# Altium footprint library IC_And_Boards.PcbLib: 9 footprints
Each footprint in its own frame and in the unit in brackets; x right, y up, seen from the top. Pads: shape width x height; smd on the part's side, far side on the other; paste and mask are expansions set on the pad; w line width, h text height; cw(c..) or ccw(c..) is an arc to the next point about the centre after c.
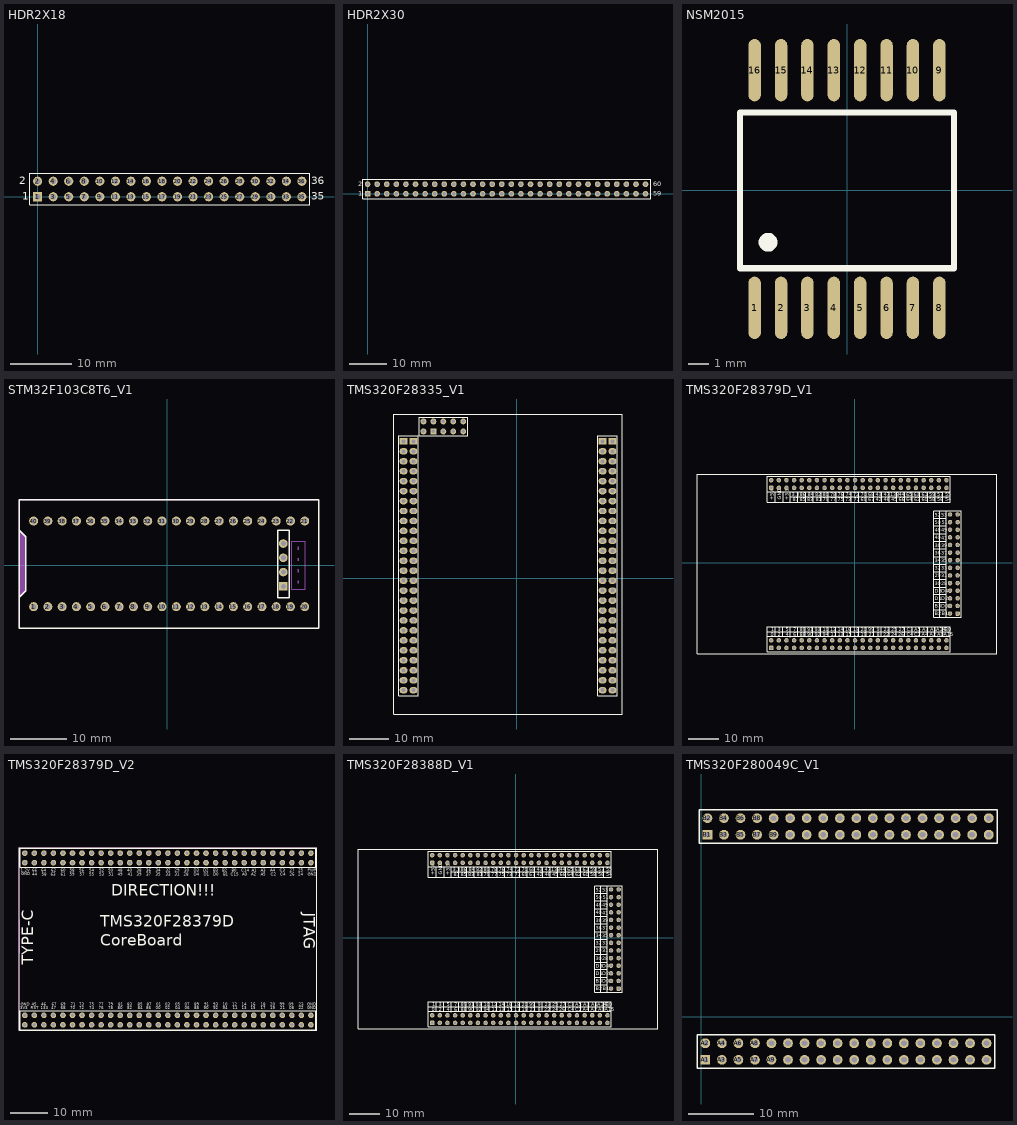
[diagram p0: the footprints below, top view; thin cyan lines are the x and y axes]

## HDR2X18 [mm] "Connector; Header; 18x2 Position"
pads (36):
  rect 1.5x1.5 hole 0.9: 1(0,0)
  round 1.5 hole 0.9: 2(0,2.54) 3(2.54,0) 4(2.54,2.54) 5(5.08,0) 6(5.08,2.54) 7(7.62,0) 8(7.62,2.54) 9(10.16,0) 10(10.16,2.54) 11(12.7,0) 12(12.7,2.54) 13(15.24,0) 14(15.24,2.54) 15(17.78,0) 16(17.78,2.54) 17(20.32,0) 18(20.32,2.54) 19(22.86,0) 20(22.86,2.54) 21(25.4,0) 22(25.4,2.54) 23(27.94,0) 24(27.94,2.54) 25(30.48,0) 26(30.48,2.54) 27(33.02,0) 28(33.02,2.54) 29(35.56,0) 30(35.56,2.54) 31(38.1,0) 32(38.1,2.54) 33(40.64,0) 34(40.64,2.54) 35(43.18,0) 36(43.18,2.54)
Top Overlay:
  lines w0.2: -1.27,-1.27 44.45,-1.27 44.45,3.81 -1.27,3.81 -1.27,-1.27
  text "36" at 44.704,2.032 h1.27
  text "35" at 44.704,-0.508 h1.27
  text "1" at -2.54,-0.508 h1.27
  text "2" at -3.048,2.032 h1.27

## HDR2X30 [mm] "Connector; Header; 30x2 Position"
pads (60):
  rect 1.5x1.5 hole 0.9: 1(0,0)
  round 1.5 hole 0.9: 2(0,2.54) 3(2.54,0) 4(2.54,2.54) 5(5.08,0) 6(5.08,2.54) 7(7.62,0) 8(7.62,2.54) 9(10.16,0) 10(10.16,2.54) 11(12.7,0) 12(12.7,2.54) 13(15.24,0) 14(15.24,2.54) 15(17.78,0) 16(17.78,2.54) 17(20.32,0) 18(20.32,2.54) 19(22.86,0) 20(22.86,2.54) 21(25.4,0) 22(25.4,2.54) 23(27.94,0) 24(27.94,2.54) 25(30.48,0) 26(30.48,2.54) 27(33.02,0) 28(33.02,2.54) 29(35.56,0) 30(35.56,2.54) 31(38.1,0) 32(38.1,2.54) 33(40.64,0) 34(40.64,2.54) 35(43.18,0) 36(43.18,2.54) 37(45.72,0) 38(45.72,2.54) 39(48.26,0) 40(48.26,2.54) 41(50.8,0) 42(50.8,2.54) 43(53.34,0) 44(53.34,2.54) 45(55.88,0) 46(55.88,2.54) 47(58.42,0) 48(58.42,2.54) 49(60.96,0) 50(60.96,2.54) 51(63.5,0) 52(63.5,2.54) 53(66.04,0) 54(66.04,2.54) 55(68.58,0) 56(68.58,2.54) 57(71.12,0) 58(71.12,2.54) 59(73.66,0) 60(73.66,2.54)
Top Overlay:
  lines w0.2: -1.27,-1.27 -1.27,3.81 75.06,3.81 75.06,-1.27 -1.27,-1.27
  text "2" at -2.54,2.032 h1.27
  text "1" at -2.54,-0.508 h1.27
  text "59" at 75.692,-0.508 h1.27
  text "60" at 75.692,2.032 h1.27
Bottom Overlay:
  text "1" at -55.88,-0.508 h1.27

## NSM2015 [mm]
pads (16):
  oval 0.6x3 smd: 1(-4.445,-5.658) 2(-3.175,-5.658) 3(-1.905,-5.658) 4(-0.635,-5.658) 5(0.635,-5.658) 6(1.905,-5.658) 7(3.175,-5.658) 8(4.445,-5.658) 9(4.445,5.785) 10(3.175,5.785) 11(1.905,5.785) 12(0.635,5.785) 13(-0.635,5.785) 14(-1.905,5.785) 15(-3.175,5.785) 16(-4.445,5.785)
Top Overlay:
  circle w0.5: c-3.8,-2.5 r0.2
  lines w0.3: -5.15,-3.75 5.15,-3.75 5.15,3.75 -5.15,3.75 -5.15,-3.75

## STM32F103C8T6_V1 [mm]
pads (44):
  round 1.6 hole 1: 1(-23.749,-7.366) 2(-21.209,-7.366) 3(-18.669,-7.366) 4(-16.129,-7.366) 5(-13.589,-7.366) 6(-11.049,-7.366) 7(-8.509,-7.366) 8(-5.969,-7.366) 9(-3.429,-7.366) 10(-0.889,-7.366) 11(1.651,-7.366) 12(4.191,-7.366) 13(6.731,-7.366) 14(9.271,-7.366) 15(11.811,-7.366) 16(14.351,-7.366) 17(16.891,-7.366) 18(19.431,-7.366) 19(21.971,-7.366) 20(24.511,-7.366) 21(24.511,7.874) 22(21.971,7.874) 23(19.431,7.874) 24(16.891,7.874) 25(14.351,7.874) 26(11.811,7.874) 27(9.271,7.874) 28(6.731,7.874) 29(4.191,7.874) 30(1.651,7.874) 31(-0.889,7.874) 32(-3.429,7.874) 33(-5.969,7.874) 34(-8.509,7.874) 35(-11.049,7.874) 36(-13.589,7.874) 37(-16.129,7.874) 38(-18.669,7.874) 39(-21.209,7.874) 40(-23.749,7.874)
  round 1.524 hole 0.914: 41(20.701,3.871) 42(20.701,1.331) 43(20.701,-1.209)
  rect 1.524x1.524 hole 0.914: 44(20.701,-3.749)
Top Overlay:
  lines w0.254: -26.289,-5.691 -25.119,-4.521 -25.119,4.254 -25.119,5.052 -26.289,6.222 ; 27.051,-11.176 27.051,11.684 ; 27.051,-11.176 -26.289,-11.176 -26.289,11.684 27.051,11.684 ; 27.051,-11.176 27.051,11.684 ; 19.714,-5.746 19.714,6.254 21.714,6.254 21.714,-5.746 19.714,-5.746
Mechanical 6:
  region: -26.289,6.222 -25.119,5.052 -25.119,-4.521 -26.289,-5.691
Mechanical 15:
  drawing of 54 lines, arcs and shapes, not listed

## TMS320F28335_V1 [mil]
pads (114):
  rect 80x65 hole 40: 1(-1040,1375) 2(-1140,1375) 103(960,1375) 104(860,1375)
  oval 80x65 hole 40: 3(-1040,1275) 4(-1140,1275) 5(-1040,1175) 6(-1140,1175) 7(-1040,1075) 8(-1140,1075) 9(-1040,975) 10(-1140,975) 11(-1040,875) 12(-1140,875) 13(-1040,775) 14(-1140,775) 15(-1040,675) 16(-1140,675) 17(-1040,575) 18(-1140,575) 19(-1040,475) 20(-1140,475) 21(-1040,375) 22(-1140,375) 23(-1040,275) 24(-1140,275) 25(-1040,175) 26(-1140,175) 27(-1040,75) 28(-1140,75) 29(-1040,-25) 30(-1140,-25) 31(-1040,-125) 32(-1140,-125) 33(-1040,-225) 34(-1140,-225) 35(-1040,-325) 36(-1140,-325) 37(-1040,-425) 38(-1140,-425) 39(-1040,-525) 40(-1140,-525) 41(-1040,-625) 42(-1140,-625) 43(-1040,-725) 44(-1140,-725) 45(-1040,-825) 46(-1140,-825) 47(-1040,-926) 48(-1140,-926) 49(-1040,-1026) 50(-1140,-1026) 51(-1040,-1126) 52(-1140,-1126) 53(960,-1126) 54(860,-1126) 55(960,-1026) 56(860,-1026) 57(960,-926) 58(860,-926) 59(960,-825) 60(860,-825) 61(960,-725) 62(860,-725) 63(960,-625) 64(860,-625) 65(960,-525) 66(860,-525) 67(960,-425) 68(860,-425) 69(960,-325) 70(860,-325) 71(960,-225) 72(860,-225) 73(960,-125) 74(860,-125) 75(960,-25) 76(860,-25) 77(960,75) 78(860,75) 79(960,175) 80(860,175) 81(960,275) 82(860,275) 83(960,375) 84(860,375) 85(960,475) 86(860,475) 87(960,575) 88(860,575) 89(960,675) 90(860,675) 91(960,775) 92(860,775) 93(960,875) 94(860,875) 95(960,975) 96(860,975) 97(960,1075) 98(860,1075) 99(960,1175) 100(860,1175) 101(960,1275) 102(860,1275)
  round 59.06 hole 35.43: 105(-540,1475) 106(-540,1575) 107(-640,1475) 108(-640,1575) 109(-740,1475) 110(-740,1575) 112(-840,1575) 113(-940,1475) 114(-940,1575)
  rect 59.06x59.06 hole 35.43: 111(-840,1475)
Top Overlay:
  lines w6: -1188,-1179.33 -991,-1179.33 -991,-982 -991,1430 -1188,1430 -1188,-983 -1188,-1179.33 ; 812,-1179.33 1009,-1179.33 1009,-982 1009,1430 812,1430 812,-983 812,-1179.33
  lines w9: -982,1432 -982,1618 ; -981,1618 -494,1618 -494,1432 -980,1432 ; -886,1432 -498,1432 ; -886,1618 -498,1618
  lines w10: -1240,-1365 1060,-1365 1060,1650 -1240,1650 -1240,-1365

## TMS320F28379D_V1 [mm]
pads (124):
  rrect50% 1.5x1.5 hole 0.9: 1(-27.838,25.044) 49(34.296,-16.872) 77(-27.838,-28.321)
  round 1.5 hole 0.9: 2(-27.838,27.584) 3(-25.298,25.044) 4(-25.298,27.584) 5(-22.758,25.044) 6(-22.758,27.584) 7(-20.218,25.044) 8(-20.218,27.584) 9(-17.678,25.044) 10(-17.678,27.584) 11(-15.138,25.044) 12(-15.138,27.584) 13(-12.598,25.044) 14(-12.598,27.584) 15(-10.058,25.044) 16(-10.058,27.584) 17(-7.518,25.044) 18(-7.518,27.584) 19(-4.978,25.044) 20(-4.978,27.584) 21(-2.438,25.044) 22(-2.438,27.584) 23(0.102,25.044) 24(0.102,27.584) 25(2.642,25.044) 26(2.642,27.584) 27(5.182,25.044) 28(5.182,27.584) 29(7.722,25.044) 30(7.722,27.584) 31(10.262,25.044) 32(10.262,27.584) 33(12.802,25.044) 34(12.802,27.584) 35(15.342,25.044) 36(15.342,27.584) 37(17.882,25.044) 38(17.882,27.584) 39(20.422,25.044) 40(20.422,27.584) 41(22.962,25.044) 42(22.962,27.584) 43(25.502,25.044) 44(25.502,27.584) 45(28.042,25.044) 46(28.042,27.584) 47(30.582,25.044) 48(30.582,27.584) 50(31.756,-16.872) 51(34.296,-14.332) 52(31.756,-14.332) 53(34.296,-11.792) 54(31.756,-11.792) 55(34.296,-9.252) 56(31.756,-9.252) 57(34.296,-6.712) 58(31.756,-6.712) 59(34.296,-4.172) 60(31.756,-4.172) 61(34.296,-1.632) 62(31.756,-1.632) 63(34.296,0.908) 64(31.756,0.908) 65(34.296,3.448) 66(31.756,3.448) 67(34.296,5.988) 68(31.756,5.988) 69(34.296,8.528) 70(31.756,8.528) 71(34.296,11.068) 72(31.756,11.068) 73(34.296,13.608) 74(31.756,13.608) 75(34.296,16.148) 76(31.756,16.148) 78(-27.838,-25.781) 79(-25.298,-28.321) 80(-25.298,-25.781) 81(-22.758,-28.321) 82(-22.758,-25.781) 83(-20.218,-28.321) 84(-20.218,-25.781) 85(-17.678,-28.321) 86(-17.678,-25.781) 87(-15.138,-28.321) 88(-15.138,-25.781) 89(-12.598,-28.321) 90(-12.598,-25.781) 91(-10.058,-28.321) 92(-10.058,-25.781) 93(-7.518,-28.321) 94(-7.518,-25.781) 95(-4.978,-28.321) 96(-4.978,-25.781) 97(-2.438,-28.321) 98(-2.438,-25.781) 99(0.102,-28.321) 100(0.102,-25.781) 101(2.642,-28.321) 102(2.642,-25.781) 103(5.182,-28.321) 104(5.182,-25.781) 105(7.722,-28.321) 106(7.722,-25.781) 107(10.262,-28.321) 108(10.262,-25.781) 109(12.802,-28.321) 110(12.802,-25.781) 111(15.342,-28.321) 112(15.342,-25.781) 113(17.882,-28.321) 114(17.882,-25.781) 115(20.422,-28.321) 116(20.422,-25.781) 117(22.962,-28.321) 118(22.962,-25.781) 119(25.502,-28.321) 120(25.502,-25.781) 121(28.042,-28.321) 122(28.042,-25.781) 123(30.582,-28.321) 124(30.582,-25.781)
Top Overlay:
  lines w0.2: -29.108,-29.591 31.852,-29.591 31.852,-24.511 -29.108,-24.511 -29.108,-29.591 ; -29.108,23.774 31.852,23.774 31.852,28.854 -29.108,28.854 -29.108,23.774 ; 30.486,-18.142 30.486,17.418 35.566,17.418 35.566,-18.142 30.486,-18.142
  lines w0.254: -29.083,-24.587 -29.083,-21.26 31.852,-21.26 31.852,-24.663 ; -29.083,-22.962 31.852,-22.962 ; -29.083,23.774 -29.083,20.295 31.847,20.295 31.847,23.774 ; -26.543,-24.562 -26.543,-21.26 ; -26.492,20.422 -26.492,23.724 ; -24.054,-21.26 -24.028,-21.26 -24.028,-24.663 ; -23.876,20.447 -23.876,23.749 ; -21.468,-24.74 -21.468,-21.26 ; -21.412,20.396 -21.412,23.698 ; -21.412,21.996 31.847,21.996 ; -18.948,-24.613 -18.948,-21.311 ; -18.948,20.371 -18.948,23.673 ; -16.485,-24.638 -16.485,-21.336 ; -16.383,20.396 -16.383,23.698 ; -13.919,-24.613 -13.919,-21.311 ; -13.818,20.472 -13.818,23.774 ; -11.354,-24.536 -11.354,-21.234 ; -11.227,20.498 -11.227,23.774 ; -8.763,-24.511 -8.763,-21.234 ; -8.763,20.472 -8.763,23.774 ; -6.299,-24.536 -6.299,-21.234 ; -6.198,20.447 -6.198,23.749 ; -3.739,20.442 -3.739,23.744 ; -3.734,-24.562 -3.734,-21.26 ; -1.275,-24.567 -1.275,-21.265 ; -1.148,20.467 -1.148,23.769 ; 1.316,-24.542 1.316,-21.24 ; 1.316,20.442 1.316,23.744 ; 3.779,-24.567 3.779,-21.265 ; 3.881,20.467 3.881,23.769 ; 6.345,-24.542 6.345,-21.24 ; 6.401,20.422 6.401,23.724 ; 8.865,-24.587 8.865,-21.285 ; 8.992,20.447 8.992,23.749 ; 11.455,-24.562 11.455,-21.26 ; 11.455,20.422 11.455,23.724 ; 13.919,-24.587 13.919,-21.285 ; 14.021,20.447 14.021,23.749 ; 16.612,-24.562 16.612,-21.26 ; 16.637,20.447 16.637,23.749 ; 19.126,-24.562 19.126,-21.26 ; 19.228,20.472 19.228,23.774 ; 21.692,20.447 21.692,23.749 ; 21.742,-24.562 21.742,-21.26 ; 24.257,20.472 24.257,23.774 ; 24.333,-24.562 24.333,-21.26 ; 26.289,-15.596 30.429,-15.596 ; 26.289,-13.056 30.429,-13.056 ; 26.289,-10.49 30.455,-10.49 ; 26.289,-8.032 30.46,-8.032 ; 26.289,-5.441 30.434,-5.441 ; 26.289,-2.977 30.46,-2.977 ; 26.289,-0.412 30.434,-0.412 ; 26.289,2.108 30.48,2.108 ; 26.289,4.699 30.455,4.699 ; 26.289,7.163 30.48,7.163 ; 26.289,9.728 30.455,9.728 ; 26.289,12.344 30.455,12.344 ; 26.289,14.935 30.429,14.935 ; 26.289,17.312 26.289,-18.11 30.48,-18.11 ; 26.289,17.399 30.455,17.399 ; 26.746,-24.562 26.746,-21.26 ; 26.772,20.295 26.772,23.774 ; 28.397,-18.11 28.397,17.399 ; 29.362,-24.562 29.362,-21.26 ; 29.413,20.295 29.413,23.774 ; -52.578,-30.353 47.422,-30.353 47.422,29.647 -52.578,29.647 -52.578,-30.353
  text "92" at -13.278,-24.492 h1.17
  text "93" at -13.276,-22.765 h1.17
  text "82" at -13.207,22.218 h1.17
  text "81" at -13.049,20.542 h1.17
  text "10" at -10.731,-22.765 h1.17
  text "79" at -10.734,20.548 h1.17
  text "94" at -10.725,-24.492 h1.17
  text "80" at -10.671,22.218 h1.17
  text "12" at -8.136,-22.765 h1.17
  text "11" at -7.969,-24.492 h1.17
  text "77" at -8.192,20.548 h1.17
  text "78" at -8.136,22.218 h1.17
  text "14" at -5.642,-22.765 h1.17
  text "13" at -5.62,-24.492 h1.17
  text "75" at -5.651,20.548 h1.17
  text "76" at -5.601,22.218 h1.17
  text "20" at 1.992,-22.765 h1.17
  text "70" at 2.005,22.218 h1.17
  text "21" at 4.591,-24.492 h1.17
  text "67" at 4.515,20.548 h1.17
  text "99" at 4.536,-22.765 h1.17
  text "68" at 4.54,22.218 h1.17
  text "8" at 7.259,-24.488 h1.17
  text "9" at 7.278,-22.76 h1.17
  text "42" at 7.057,20.548 h1.17
  text "43" at 7.075,22.218 h1.17
  text "22" at 9.558,-24.492 h1.17
  text "46" at 9.598,20.548 h1.17
  text "23" at 9.626,-22.765 h1.17
  text "47" at 9.611,22.218 h1.17
  text "133" at 11.798,22.218 h1.17
  text "24" at 12.097,-24.492 h1.17
  text "45" at 12.14,20.548 h1.17
  text "25" at 12.17,-22.765 h1.17
  text "26" at 14.561,-24.492 h1.17
  text "27" at 14.634,-22.765 h1.17
  text "66" at 14.681,20.548 h1.17
  text "44" at 14.681,22.218 h1.17
  text "65" at 17.216,22.218 h1.17
  text "64" at 17.223,20.548 h1.17
  text "C4" at 17.278,-24.492 h1.17
  text "C3" at 17.357,-22.765 h1.17
  text "63" at 19.752,22.218 h1.17
  text "62" at 19.764,20.548 h1.17
  text "C2" at 19.817,-24.492 h1.17
  text "A5" at 19.901,-22.765 h1.17
  text "61" at 22.287,22.218 h1.17
  text "60" at 22.306,20.548 h1.17
  text "A4" at 22.356,-24.492 h1.17
  text "A3" at 22.446,-22.765 h1.17
  text "59" at 24.822,22.218 h1.17
  text "58" at 24.847,20.548 h1.17
  text "A2" at 24.946,-24.492 h1.17
  text "A1" at 25.143,-22.765 h1.17
  text "D1" at 26.727,-12.436 h1.17
  text "B2" at 26.676,-17.436 h1.17
  text "29" at 26.727,-4.83 h1.17
  text "36" at 26.727,2.777 h1.17
  text "50" at 26.727,12.919 h1.17
  text "D3" at 26.727,-9.901 h1.17
  text "52" at 26.727,15.454 h1.17
  text "B3" at 26.727,-14.972 h1.17
  text "32" at 26.727,-2.294 h1.17
  text "30" at 26.727,-7.365 h1.17
  text "38" at 26.727,5.312 h1.17
  text "40" at 26.727,7.848 h1.17
  text "48" at 26.727,10.383 h1.17
  text "34" at 26.727,0.241 h1.17
  text "A0" at 27.435,-24.492 h1.17
  text "A14" at 27.213,-22.765 h1.17
  text "56" at 27.564,20.523 h1.17
  text "57" at 27.57,22.193 h1.17
  text "31" at 28.886,-4.841 h1.17
  text "41" at 28.886,7.8 h1.17
  text "B1" at 28.962,-17.418 h1.17
  text "39" at 28.886,5.271 h1.17
  text "37" at 28.886,2.743 h1.17
  text "28" at 28.886,-7.369 h1.17
  text "53" at 28.886,15.384 h1.17
  text "D2" at 28.886,-12.426 h1.17
  text "35" at 28.886,0.215 h1.17
  text "D0" at 28.886,-14.954 h1.17
  text "33" at 28.886,-2.313 h1.17
  text "49" at 28.886,10.328 h1.17
  text "51" at 29.038,12.957 h1.17
  text "D4" at 28.886,-9.897 h1.17
  text "A15" at 29.732,-24.492 h1.17
  text "B0" at 30.08,-22.765 h1.17
  text "55" at 30.105,22.193 h1.17
  text "54" at 30.131,20.523 h1.17
  text "5" at -23.038,-22.76 h1.17
  text "4" at -23.038,-24.488 h1.17
  text "6" at -20.426,-24.488 h1.17
  text "7" at -20.426,-22.76 h1.17
  text "88" at -18.383,-24.492 h1.17
  text "89" at -18.365,-22.765 h1.17
  text "91" at -15.821,-22.765 h1.17
  text "90" at -15.831,-24.492 h1.17
  text "+3.3" at -21.964,20.85 h1.17
  text "3.3" at -21.068,22.218 h1.17
  text "87" at -20.72,20.491 h1.17
  text "85" at -18.358,20.548 h1.17
  text "86" at -18.333,22.244 h1.17
  text "83" at -15.817,20.548 h1.17
  text "84" at -15.742,22.218 h1.17
  text "16" at -3.097,-22.765 h1.17
  text "15" at -3.067,-24.492 h1.17
  text "73" at -3.109,20.548 h1.17
  text "74" at -3.066,22.218 h1.17
  text "18" at -0.553,-22.765 h1.17
  text "17" at -0.515,-24.492 h1.17
  text "71" at -0.4,20.542 h1.17
  text "72" at -0.53,22.218 h1.17
  text "19" at 2.038,-24.492 h1.17
  text "69" at 1.974,20.548 h1.17
  text "GND" at -24.428,21.122 h1.17
  text "0" at -27.991,-24.488 h1.17
  text "1" at -27.838,-22.76 h1.17
  text "+5V" at -26.943,20.918 h1.17
  text "2" at -25.603,-24.488 h1.17
  text "3" at -25.603,-22.76 h1.17

## TMS320F28379D_V2 [mm]
pads (124):
  round 1.5 hole 0.9: A1(585.692,527.521) A2(585.692,524.981) A3(583.152,527.521) A4(583.152,524.981) A5(580.612,527.521) A6(580.612,524.981) A7(578.072,527.521) A8(578.072,524.981) A9(575.532,527.521) A10(575.532,524.981) A11(572.992,527.521) A12(572.992,524.981) A13(570.452,527.521) A14(570.452,524.981) A15(567.912,527.521) A16(567.912,524.981) A17(565.372,527.521) A18(565.372,524.981) A19(562.832,527.521) A20(562.832,524.981) A21(560.292,527.521) A22(560.292,524.981) A23(557.752,527.521) A24(557.752,524.981) A25(555.212,527.521) A26(555.212,524.981) A27(552.672,527.521) A28(552.672,524.981) A29(550.132,527.521) A30(550.132,524.981) A31(547.592,527.521) A32(547.592,524.981) A33(545.052,527.521) A34(545.052,524.981) A35(542.512,527.521) A36(542.512,524.981) A37(539.972,527.521) A38(539.972,524.981) A39(537.432,527.521) A40(537.432,524.981) A41(534.892,527.521) A42(534.892,524.981) A43(532.352,527.521) A44(532.352,524.981) A45(529.812,527.521) A46(529.812,524.981) A47(527.272,527.521) A48(527.272,524.981) A49(524.732,527.521) A50(524.732,524.981) A51(522.192,527.521) A52(522.192,524.981) A53(519.652,527.521) A54(519.652,524.981) A55(517.112,527.521) A56(517.112,524.981) A57(514.572,527.521) A58(514.572,524.981) A59(512.032,527.521) A60(512.032,524.981) A61(509.492,527.521) A62(509.492,524.981) B1(509.492,568.161) B2(509.492,570.701) B3(512.032,568.161) B4(512.032,570.701) B5(514.572,568.161) B6(514.572,570.701) B7(517.112,568.161) B8(517.112,570.701) B9(519.652,568.161) B10(519.652,570.701) B11(522.192,568.161) B12(522.192,570.701) B13(524.732,568.161) B14(524.732,570.701) B15(527.272,568.161) B16(527.272,570.701) B17(529.812,568.161) B18(529.812,570.701) B19(532.352,568.161) B20(532.352,570.701) B21(534.892,568.161) B22(534.892,570.701) B23(537.432,568.161) B24(537.432,570.701) B25(539.972,568.161) B26(539.972,570.701) B27(542.512,568.161) B28(542.512,570.701) B29(545.052,568.161) B30(545.052,570.701) B31(547.592,568.161) B32(547.592,570.701) B33(550.132,568.161) B34(550.132,570.701) B35(552.672,568.161) B36(552.672,570.701) B37(555.212,568.161) B38(555.212,570.701) B39(557.752,568.161) B40(557.752,570.701) B41(560.292,568.161) B42(560.292,570.701) B43(562.832,568.161) B44(562.832,570.701) B45(565.372,568.161) B46(565.372,570.701) B47(567.912,568.161) B48(567.912,570.701) B49(570.452,568.161) B50(570.452,570.701) B51(572.992,568.161) B52(572.992,570.701) B53(575.532,568.161) B54(575.532,570.701) B55(578.072,568.161) B56(578.072,570.701) B57(580.612,568.161) B58(580.612,570.701) B59(583.152,568.161) B60(583.152,570.701) B61(585.692,568.161) B62(585.692,570.701)
Top Overlay:
  lines w0.152: 507.949,523.494 587.172,523.494 587.172,572.211 507.949,572.211 507.949,523.494
  lines w0.2: 508.222,523.711 586.962,523.711 586.962,528.791 508.222,528.791 508.222,523.711 ; 508.222,566.891 586.962,566.891 586.962,571.971 508.222,571.971 508.222,566.891
  text "TMS320F28379D / CoreBoard" at 529.596,545.008 h5.08
  text "DIRECTION!!!" at 532.511,558.302 h5.08
  text "TYPE-C" at 512.867,540.944 h5.08
  text "JTAG" at 582.755,554.812 h5.08
  text "63" at 516.454,564.732 h0.76
  text "62" at 516.48,565.774 h0.76
  text "55" at 526.64,564.732 h0.76
  text "54" at 526.64,565.774 h0.76
  text "53" at 529.307,564.732 h0.76
  text "52" at 529.307,565.774 h0.76
  text "60" at 519.02,565.774 h0.76
  text "59" at 521.509,564.732 h0.76
  text "58" at 521.483,565.774 h0.76
  text "56" at 524.049,565.774 h0.76
  text "57" at 524.095,564.732 h0.76
  text "61" at 519.056,564.732 h0.76
  text "24" at 582.367,564.732 h0.76
  text "25" at 582.367,565.774 h0.76
  text "27" at 580.056,565.774 h0.76
  text "C3" at 577.444,565.774 h0.76
  text "C4" at 577.457,564.732 h0.76
  text "D0" at 559.71,564.732 h0.76
  text "B3" at 559.66,565.774 h0.76
  text "26" at 579.98,564.732 h0.76
  text "28" at 551.836,564.732 h0.76
  text "D2" at 557.018,565.774 h0.76
  text "30" at 551.913,565.774 h0.76
  text "D4" at 554.478,564.732 h0.76
  text "D3" at 554.478,565.774 h0.76
  text "D1" at 557.17,564.732 h0.76
  text "31" at 549.373,564.732 h0.76
  text "32" at 547.01,565.774 h0.76
  text "33" at 546.96,564.732 h0.76
  text "34" at 544.42,565.774 h0.76
  text "29" at 549.373,565.774 h0.76
  text "35" at 544.394,564.732 h0.76
  text "39" at 539.238,564.732 h0.76
  text "38" at 539.263,565.774 h0.76
  text "37" at 541.88,564.732 h0.76
  text "36" at 541.88,565.774 h0.76
  text "A5" at 572.385,564.732 h0.76
  text "A2" at 569.794,564.732 h0.76
  text "A1" at 569.896,565.774 h0.76
  text "A3" at 572.385,565.774 h0.76
  text "A4" at 574.9,565.774 h0.76
  text "C2" at 574.925,564.732 h0.76
  text "C15" at 564.384,564.732 h0.76
  text "B1" at 562.352,564.732 h0.76
  text "B2" at 562.123,565.774 h0.76
  text "B0" at 564.638,565.774 h0.76
  text "C14" at 567.178,565.774 h0.76
  text "A0" at 567.356,564.707 h0.76
  text "49" at 534.206,564.732 h0.76
  text "51" at 531.897,564.732 h0.76
  text "50" at 531.775,565.774 h0.76
  text "48" at 534.209,565.774 h0.76
  text "40" at 536.749,565.774 h0.76
  text "41" at 536.876,564.732 h0.76
  text "66" at 511.476,565.774 h0.76
  text "64" at 513.914,565.774 h0.76
  text "58" at 513.94,564.732 h0.76
  text "133" at 513.711,529.096 h0.76
  text "46" at 513.914,530.112 h0.76
  text "GND" at 508.352,530.112 h0.76
  text "3V3" at 508.326,529.096 h0.76
  text "82" at 536.774,529.096 h0.76
  text "83" at 536.8,530.112 h0.76
  text "81" at 534.361,530.112 h0.76
  text "79" at 531.699,530.112 h0.76
  text "78" at 531.712,529.096 h0.76
  text "80" at 534.282,529.096 h0.76
  text "13" at 567.205,529.096 h0.76
  text "14" at 567.203,530.112 h0.76
  text "12" at 564.74,530.112 h0.76
  text "10" at 562.225,530.112 h0.76
  text "94" at 562.149,529.096 h0.76
  text "11" at 564.892,529.096 h0.76
  text "19" at 574.849,529.096 h0.76
  text "20" at 574.823,530.112 h0.76
  text "18" at 572.309,530.112 h0.76
  text "16" at 569.693,530.112 h0.76
  text "15" at 569.723,529.096 h0.76
  text "17" at 572.306,529.096 h0.76
  text "87" at 541.981,530.112 h0.76
  text "86" at 541.829,529.096 h0.76
  text "85" at 539.568,530.112 h0.76
  text "84" at 539.543,529.096 h0.76
  text "00" at 544.42,529.096 h0.76
  text "05" at 549.55,530.112 h0.76
  text "01" at 544.521,530.112 h0.76
  text "02" at 546.883,529.096 h0.76
  text "03" at 546.883,530.112 h0.76
  text "04" at 549.55,529.096 h0.76
  text "90" at 557.145,529.096 h0.76
  text "89" at 554.63,530.112 h0.76
  text "88" at 554.63,529.096 h0.76
  text "07" at 552.09,530.112 h0.76
  text "91" at 557.221,530.112 h0.76
  text "06" at 552.09,529.096 h0.76
  text "08" at 579.878,529.096 h0.76
  text "93" at 559.634,530.112 h0.76
  text "92" at 559.634,529.096 h0.76
  text "21" at 577.465,529.096 h0.76
  text "99" at 577.343,530.112 h0.76
  text "09" at 579.827,530.112 h0.76
  text "23" at 582.443,530.112 h0.76
  text "22" at 582.469,529.096 h0.76
  text "68" at 519.045,529.096 h0.76
  text "72" at 524.044,529.096 h0.76
  text "73" at 524.023,530.112 h0.76
  text "71" at 521.687,530.112 h0.76
  text "70" at 521.585,529.096 h0.76
  text "69" at 519.096,530.112 h0.76
  text "77" at 529.18,530.112 h0.76
  text "76" at 529.18,529.096 h0.76
  text "75" at 526.614,530.112 h0.76
  text "74" at 526.614,529.096 h0.76
  text "67" at 516.607,530.112 h0.76
  text "47" at 516.505,529.096 h0.76
  text "44" at 511.45,564.732 h0.76
  text "45" at 511.323,530.112 h0.76
  text "RST" at 511.069,529.096 h0.76
  text "GND" at 584.747,529.096 h0.76
  text "GND" at 584.722,530.112 h0.76
  text "GND" at 584.78,564.732 h0.76
  text "PWR" at 584.78,565.774 h0.76
  text "GND" at 508.555,564.758 h0.76
  text "1.2V" at 508.377,565.774 h0.76
Bottom Overlay:
  text "1" at 641.572,528.029 h1.27
  text "1" at 453.612,567.653 h1.27
Keep-Out Layer:
  lines w0.127: 587.193,572.175 587.193,523.483 507.945,523.483 507.945,572.2 587.193,572.2 587.193,572.175 ; 587.193,572.175 587.193,572.175
Mechanical 15:
  lines w0.051: 508.184,544.032 508.184,552.972

## TMS320F28388D_V1 [mm]
pads (124):
  rrect50% 1.5x1.5 hole 0.9: 1(-27.838,25.044) 49(34.296,-16.872) 77(-27.838,-28.321)
  round 1.5 hole 0.9: 2(-27.838,27.584) 3(-25.298,25.044) 4(-25.298,27.584) 5(-22.758,25.044) 6(-22.758,27.584) 7(-20.218,25.044) 8(-20.218,27.584) 9(-17.678,25.044) 10(-17.678,27.584) 11(-15.138,25.044) 12(-15.138,27.584) 13(-12.598,25.044) 14(-12.598,27.584) 15(-10.058,25.044) 16(-10.058,27.584) 17(-7.518,25.044) 18(-7.518,27.584) 19(-4.978,25.044) 20(-4.978,27.584) 21(-2.438,25.044) 22(-2.438,27.584) 23(0.102,25.044) 24(0.102,27.584) 25(2.642,25.044) 26(2.642,27.584) 27(5.182,25.044) 28(5.182,27.584) 29(7.722,25.044) 30(7.722,27.584) 31(10.262,25.044) 32(10.262,27.584) 33(12.802,25.044) 34(12.802,27.584) 35(15.342,25.044) 36(15.342,27.584) 37(17.882,25.044) 38(17.882,27.584) 39(20.422,25.044) 40(20.422,27.584) 41(22.962,25.044) 42(22.962,27.584) 43(25.502,25.044) 44(25.502,27.584) 45(28.042,25.044) 46(28.042,27.584) 47(30.582,25.044) 48(30.582,27.584) 50(31.756,-16.872) 51(34.296,-14.332) 52(31.756,-14.332) 53(34.296,-11.792) 54(31.756,-11.792) 55(34.296,-9.252) 56(31.756,-9.252) 57(34.296,-6.712) 58(31.756,-6.712) 59(34.296,-4.172) 60(31.756,-4.172) 61(34.296,-1.632) 62(31.756,-1.632) 63(34.296,0.908) 64(31.756,0.908) 65(34.296,3.448) 66(31.756,3.448) 67(34.296,5.988) 68(31.756,5.988) 69(34.296,8.528) 70(31.756,8.528) 71(34.296,11.068) 72(31.756,11.068) 73(34.296,13.608) 74(31.756,13.608) 75(34.296,16.148) 76(31.756,16.148) 78(-27.838,-25.781) 79(-25.298,-28.321) 80(-25.298,-25.781) 81(-22.758,-28.321) 82(-22.758,-25.781) 83(-20.218,-28.321) 84(-20.218,-25.781) 85(-17.678,-28.321) 86(-17.678,-25.781) 87(-15.138,-28.321) 88(-15.138,-25.781) 89(-12.598,-28.321) 90(-12.598,-25.781) 91(-10.058,-28.321) 92(-10.058,-25.781) 93(-7.518,-28.321) 94(-7.518,-25.781) 95(-4.978,-28.321) 96(-4.978,-25.781) 97(-2.438,-28.321) 98(-2.438,-25.781) 99(0.102,-28.321) 100(0.102,-25.781) 101(2.642,-28.321) 102(2.642,-25.781) 103(5.182,-28.321) 104(5.182,-25.781) 105(7.722,-28.321) 106(7.722,-25.781) 107(10.262,-28.321) 108(10.262,-25.781) 109(12.802,-28.321) 110(12.802,-25.781) 111(15.342,-28.321) 112(15.342,-25.781) 113(17.882,-28.321) 114(17.882,-25.781) 115(20.422,-28.321) 116(20.422,-25.781) 117(22.962,-28.321) 118(22.962,-25.781) 119(25.502,-28.321) 120(25.502,-25.781) 121(28.042,-28.321) 122(28.042,-25.781) 123(30.582,-28.321) 124(30.582,-25.781)
Top Overlay:
  lines w0.2: -29.108,-29.591 31.852,-29.591 31.852,-24.511 -29.108,-24.511 -29.108,-29.591 ; -29.108,23.774 31.852,23.774 31.852,28.854 -29.108,28.854 -29.108,23.774 ; 30.486,-18.142 30.486,17.418 35.566,17.418 35.566,-18.142 30.486,-18.142
  lines w0.254: -29.083,-24.587 -29.083,-21.26 31.852,-21.26 31.852,-24.663 ; -29.083,-22.962 31.852,-22.962 ; -29.083,23.774 -29.083,20.295 31.847,20.295 31.847,23.774 ; -26.543,-24.562 -26.543,-21.26 ; -26.492,20.422 -26.492,23.724 ; -24.054,-21.26 -24.028,-21.26 -24.028,-24.663 ; -23.876,20.447 -23.876,23.749 ; -21.468,-24.74 -21.468,-21.26 ; -21.412,20.396 -21.412,23.698 ; -21.412,21.996 31.847,21.996 ; -18.948,-24.613 -18.948,-21.311 ; -18.948,20.371 -18.948,23.673 ; -16.485,-24.638 -16.485,-21.336 ; -16.383,20.396 -16.383,23.698 ; -13.919,-24.613 -13.919,-21.311 ; -13.818,20.472 -13.818,23.774 ; -11.354,-24.536 -11.354,-21.234 ; -11.227,20.498 -11.227,23.774 ; -8.763,-24.511 -8.763,-21.234 ; -8.763,20.472 -8.763,23.774 ; -6.299,-24.536 -6.299,-21.234 ; -6.198,20.447 -6.198,23.749 ; -3.739,20.442 -3.739,23.744 ; -3.734,-24.562 -3.734,-21.26 ; -1.275,-24.567 -1.275,-21.265 ; -1.148,20.467 -1.148,23.769 ; 1.316,-24.542 1.316,-21.24 ; 1.316,20.442 1.316,23.744 ; 3.779,-24.567 3.779,-21.265 ; 3.881,20.467 3.881,23.769 ; 6.345,-24.542 6.345,-21.24 ; 6.401,20.422 6.401,23.724 ; 8.865,-24.587 8.865,-21.285 ; 8.992,20.447 8.992,23.749 ; 11.455,-24.562 11.455,-21.26 ; 11.455,20.422 11.455,23.724 ; 13.919,-24.587 13.919,-21.285 ; 14.021,20.447 14.021,23.749 ; 16.612,-24.562 16.612,-21.26 ; 16.637,20.447 16.637,23.749 ; 19.126,-24.562 19.126,-21.26 ; 19.228,20.472 19.228,23.774 ; 21.692,20.447 21.692,23.749 ; 21.742,-24.562 21.742,-21.26 ; 24.257,20.472 24.257,23.774 ; 24.333,-24.562 24.333,-21.26 ; 26.289,-15.596 30.429,-15.596 ; 26.289,-13.056 30.429,-13.056 ; 26.289,-10.49 30.455,-10.49 ; 26.289,-8.032 30.46,-8.032 ; 26.289,-5.441 30.434,-5.441 ; 26.289,-2.977 30.46,-2.977 ; 26.289,-0.412 30.434,-0.412 ; 26.289,2.108 30.48,2.108 ; 26.289,4.699 30.455,4.699 ; 26.289,7.163 30.48,7.163 ; 26.289,9.728 30.455,9.728 ; 26.289,12.344 30.455,12.344 ; 26.289,14.935 30.429,14.935 ; 26.289,17.312 26.289,-18.11 30.48,-18.11 ; 26.289,17.399 30.455,17.399 ; 26.746,-24.562 26.746,-21.26 ; 26.772,20.295 26.772,23.774 ; 28.397,-18.11 28.397,17.399 ; 29.362,-24.562 29.362,-21.26 ; 29.413,20.295 29.413,23.774 ; -52.578,-30.353 47.422,-30.353 47.422,29.647 -52.578,29.647 -52.578,-30.353
  text "92" at -13.278,-24.492 h1.17
  text "93" at -13.276,-22.765 h1.17
  text "82" at -13.207,22.218 h1.17
  text "81" at -13.049,20.542 h1.17
  text "10" at -10.731,-22.765 h1.17
  text "79" at -10.734,20.548 h1.17
  text "94" at -10.725,-24.492 h1.17
  text "80" at -10.671,22.218 h1.17
  text "12" at -8.136,-22.765 h1.17
  text "11" at -7.969,-24.492 h1.17
  text "77" at -8.192,20.548 h1.17
  text "78" at -8.136,22.218 h1.17
  text "14" at -5.642,-22.765 h1.17
  text "13" at -5.62,-24.492 h1.17
  text "75" at -5.651,20.548 h1.17
  text "76" at -5.601,22.218 h1.17
  text "20" at 1.992,-22.765 h1.17
  text "70" at 2.005,22.218 h1.17
  text "21" at 4.591,-24.492 h1.17
  text "67" at 4.515,20.548 h1.17
  text "99" at 4.536,-22.765 h1.17
  text "68" at 4.54,22.218 h1.17
  text "8" at 7.259,-24.488 h1.17
  text "9" at 7.278,-22.76 h1.17
  text "42" at 7.057,20.548 h1.17
  text "43" at 7.075,22.218 h1.17
  text "22" at 9.558,-24.492 h1.17
  text "46" at 9.598,20.548 h1.17
  text "23" at 9.626,-22.765 h1.17
  text "47" at 9.611,22.218 h1.17
  text "133" at 11.798,22.218 h1.17
  text "24" at 12.097,-24.492 h1.17
  text "45" at 12.14,20.548 h1.17
  text "25" at 12.17,-22.765 h1.17
  text "26" at 14.561,-24.492 h1.17
  text "27" at 14.634,-22.765 h1.17
  text "66" at 14.681,20.548 h1.17
  text "44" at 14.681,22.218 h1.17
  text "65" at 17.216,22.218 h1.17
  text "64" at 17.223,20.548 h1.17
  text "C4" at 17.278,-24.492 h1.17
  text "C3" at 17.357,-22.765 h1.17
  text "63" at 19.752,22.218 h1.17
  text "62" at 19.764,20.548 h1.17
  text "C2" at 19.817,-24.492 h1.17
  text "A5" at 19.901,-22.765 h1.17
  text "61" at 22.287,22.218 h1.17
  text "60" at 22.306,20.548 h1.17
  text "A4" at 22.356,-24.492 h1.17
  text "A3" at 22.446,-22.765 h1.17
  text "59" at 24.822,22.218 h1.17
  text "58" at 24.847,20.548 h1.17
  text "A2" at 24.946,-24.492 h1.17
  text "A1" at 25.143,-22.765 h1.17
  text "D1" at 26.727,-12.436 h1.17
  text "B2" at 26.676,-17.436 h1.17
  text "29" at 26.727,-4.83 h1.17
  text "36" at 26.727,2.777 h1.17
  text "50" at 26.727,12.919 h1.17
  text "D3" at 26.727,-9.901 h1.17
  text "52" at 26.727,15.454 h1.17
  text "B3" at 26.727,-14.972 h1.17
  text "32" at 26.727,-2.294 h1.17
  text "30" at 26.727,-7.365 h1.17
  text "38" at 26.727,5.312 h1.17
  text "40" at 26.727,7.848 h1.17
  text "48" at 26.727,10.383 h1.17
  text "34" at 26.727,0.241 h1.17
  text "A0" at 27.435,-24.492 h1.17
  text "A14" at 27.213,-22.765 h1.17
  text "56" at 27.564,20.523 h1.17
  text "57" at 27.57,22.193 h1.17
  text "31" at 28.886,-4.841 h1.17
  text "41" at 28.886,7.8 h1.17
  text "B1" at 28.962,-17.418 h1.17
  text "39" at 28.886,5.271 h1.17
  text "37" at 28.886,2.743 h1.17
  text "28" at 28.886,-7.369 h1.17
  text "53" at 28.886,15.384 h1.17
  text "D2" at 28.886,-12.426 h1.17
  text "35" at 28.886,0.215 h1.17
  text "D0" at 28.886,-14.954 h1.17
  text "33" at 28.886,-2.313 h1.17
  text "49" at 28.886,10.328 h1.17
  text "51" at 29.038,12.957 h1.17
  text "D4" at 28.886,-9.897 h1.17
  text "A15" at 29.732,-24.492 h1.17
  text "B0" at 30.08,-22.765 h1.17
  text "55" at 30.105,22.193 h1.17
  text "54" at 30.131,20.523 h1.17
  text "5" at -23.038,-22.76 h1.17
  text "4" at -23.038,-24.488 h1.17
  text "6" at -20.426,-24.488 h1.17
  text "7" at -20.426,-22.76 h1.17
  text "88" at -18.383,-24.492 h1.17
  text "89" at -18.365,-22.765 h1.17
  text "91" at -15.821,-22.765 h1.17
  text "90" at -15.831,-24.492 h1.17
  text "+3.3" at -21.964,20.85 h1.17
  text "3.3" at -21.068,22.218 h1.17
  text "87" at -20.72,20.491 h1.17
  text "85" at -18.358,20.548 h1.17
  text "86" at -18.333,22.244 h1.17
  text "83" at -15.817,20.548 h1.17
  text "84" at -15.742,22.218 h1.17
  text "16" at -3.097,-22.765 h1.17
  text "15" at -3.067,-24.492 h1.17
  text "73" at -3.109,20.548 h1.17
  text "74" at -3.066,22.218 h1.17
  text "18" at -0.553,-22.765 h1.17
  text "17" at -0.515,-24.492 h1.17
  text "71" at -0.4,20.542 h1.17
  text "72" at -0.53,22.218 h1.17
  text "19" at 2.038,-24.492 h1.17
  text "69" at 1.974,20.548 h1.17
  text "GND" at -24.428,21.122 h1.17
  text "0" at -27.991,-24.488 h1.17
  text "1" at -27.838,-22.76 h1.17
  text "+5V" at -26.943,20.918 h1.17
  text "2" at -25.603,-24.488 h1.17
  text "3" at -25.603,-22.76 h1.17

## TMS320F280049C_V1 [mm]
pads (72):
  rect 1.5x1.5 hole 0.9: A1(0.61,-6.604) B1(0.94,27.94)
  round 1.5 hole 0.9: A2(0.61,-4.064) A3(3.15,-6.604) A4(3.15,-4.064) A5(5.69,-6.604) A6(5.69,-4.064) A7(8.23,-6.604) A8(8.23,-4.064) A9(10.77,-6.604) A10(10.77,-4.064) A11(13.31,-6.604) A12(13.31,-4.064) A13(15.85,-6.604) A14(15.85,-4.064) A15(18.39,-6.604) A16(18.39,-4.064) A17(20.93,-6.604) A18(20.93,-4.064) A19(23.47,-6.604) A20(23.47,-4.064) A21(26.01,-6.604) A22(26.01,-4.064) A23(28.55,-6.604) A24(28.55,-4.064) A25(31.09,-6.604) A26(31.09,-4.064) A27(33.63,-6.604) A28(33.63,-4.064) A29(36.17,-6.604) A30(36.17,-4.064) A31(38.71,-6.604) A32(38.71,-4.064) A33(41.25,-6.604) A34(41.25,-4.064) A35(43.79,-6.604) A36(43.79,-4.064) B2(0.94,30.48) B3(3.48,27.94) B4(3.48,30.48) B5(6.02,27.94) B6(6.02,30.48) B7(8.56,27.94) B8(8.56,30.48) B9(11.1,27.94) B10(11.1,30.48) B11(13.64,27.94) B12(13.64,30.48) B13(16.18,27.94) B14(16.18,30.48) B15(18.72,27.94) B16(18.72,30.48) B17(21.26,27.94) B18(21.26,30.48) B19(23.8,27.94) B20(23.8,30.48) B21(26.34,27.94) B22(26.34,30.48) B23(28.88,27.94) B24(28.88,30.48) B25(31.42,27.94) B26(31.42,30.48) B27(33.96,27.94) B28(33.96,30.48) B29(36.5,27.94) B30(36.5,30.48) B31(39.04,27.94) B32(39.04,30.48) B33(41.58,27.94) B34(41.58,30.48) B35(44.12,27.94) B36(44.12,30.48)
Top Overlay:
  lines w0.2: -0.66,-7.874 45.06,-7.874 45.06,-2.794 -0.66,-2.794 -0.66,-7.874 ; -0.33,26.67 45.39,26.67 45.39,31.75 -0.33,31.75 -0.33,26.67